# Altium schematic symbol library 1985234.SchLib: 1 symbol
Pins are listed as number, name and electrical type; pins without a type are passive.

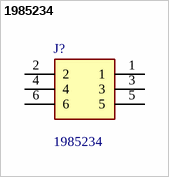
[diagram p0: symbol 1985234]

## 1985234
designator J?
PCB terminal block, nominal current: 8 A, rated voltage (III/2): 400 V, nominal cross section: 1.5 mm, number of potentials: 6, number of rows: 1, number of positions per row: 6, product range: PTSA 1,5, pitch: 3.5 mm, connection method: Push-in spring connection, mounting: Wave soldering, conductor/PCB connection direction: 45 , color: green, Pin layout: Zigzag pinning W, Solder pin [P]: 3.5 mm, number of solder pins per potential: 1, type of packaging: packed in cardboard. Offset soldering legs, two-row; Manufacturer_Name: Phoenix Contact; Geometry.Height: 13.1mm; Mouser Part Number: 651-1985234; Mouser Price/Stock: https://www.mouser.co.uk/ProductDetail/Phoenix-Contact/1985234?qs=A%2FKWGUWTCZgjCof%252B1YY92w%3D%3D; Manufacturer_Part_Number: 1985234; Datasheet Link: https://datasheet.datasheetarchive.com/originals/distributors/SFDatasheet-2/sf-00059076.pdf
footprint 1985234
pins: 1, 2, 3, 4, 5, 6